# Altium footprint library DPAK.PcbLib: 1 footprints
Each footprint in its own frame and in the unit in brackets; x right, y up, seen from the top. Pads: shape width x height; smd on the part's side, far side on the other; paste and mask are expansions set on the pad; w line width, h text height; cw(c..) or ccw(c..) is an arc to the next point about the centre after c.
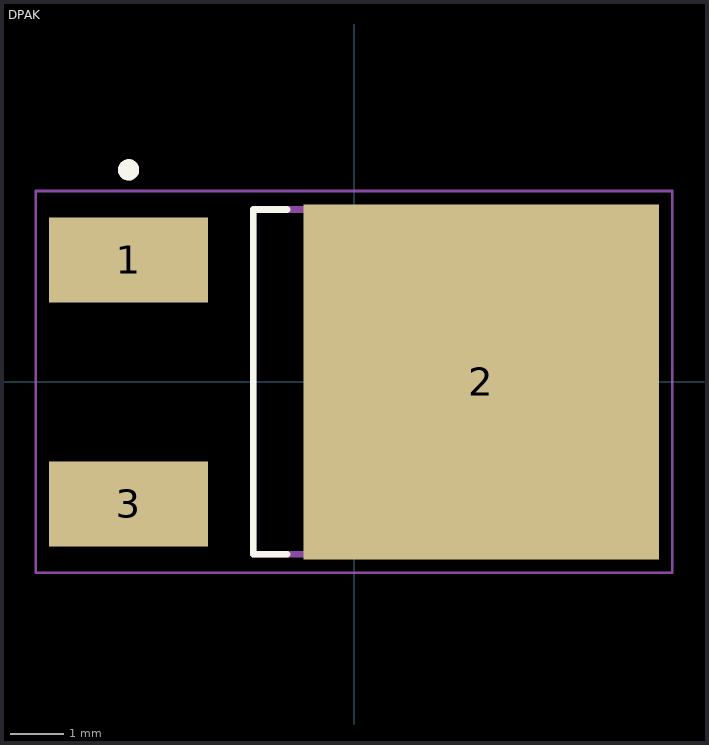
[diagram p0: the footprint, top view; thin cyan lines are the x and y axes]

## DPAK [mm]
pads (3):
  rect 3x1.6 smd: 1(-4.25,2.3) 3(-4.25,-2.3)
  rect 6.7x6.7 smd paste-4: 2(2.4,0)
Top Overlay:
  circle w0.2: c-4.25,4 r0.1
  lines w0.127: -1.264,-3.25 -1.9,-3.25 -1.9,3.25 -1.264,3.25
Top Paste:
  region: 5.42,-3.02 3.84,-3.02 3.84,-1.44 5.42,-1.44
  region: 5.42,1.44 3.84,1.44 3.84,3.02 5.42,3.02
  region: 5.42,-0.79 3.84,-0.79 3.84,0.79 5.42,0.79
  region: 0.96,-3.02 -0.62,-3.02 -0.62,-1.44 0.96,-1.44
  region: 0.96,1.44 -0.62,1.44 -0.62,3.02 0.96,3.02
  region: 0.96,-0.79 -0.62,-0.79 -0.62,0.79 0.96,0.79
  region: 3.19,-3.02 1.61,-3.02 1.61,-1.44 3.19,-1.44
  region: 3.19,1.44 1.61,1.44 1.61,3.02 3.19,3.02
  region: 3.19,-0.79 1.61,-0.79 1.61,0.79 3.19,0.79
Mechanical 13:
  circle w0.2: c-4.25,4 r0.1
  lines w0.127: -1.9,-3.25 -1.9,3.25 4.2,3.25 4.2,-3.25 -1.9,-3.25
Mechanical 15:
  lines w0.05: -6,-3.6 6,-3.6 6,3.6 -6,3.6 -6,-3.6
3D body "L78M15CDT-TR.STEP": height 2.37, standoff -0.03, extent -4.616,-3.25 5.109,3.25